# Altium integrated library SI2302.IntLib: 1 symbol
Pins are listed as number, name and electrical type; pins without a type are passive.

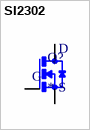
[diagram p0: symbol SI2302]

## SI2302
designator Q?
N-Channel 20 V 2.6A (Ta) 710mW (Ta) Surface Mount SOT-23-3 (TO-236); MP: SI2302; MF: Vishay Siliconix; Price: None; Availability: In Stock; Package: SOT-23-3 Vishay Siliconix; Value: *; SnapEDA_Link: https://www.snapeda.com/parts/SI2302/Vishay+Siliconix/view-part/?ref=snap; Purchase-URL: https://pricing.snapeda.com/search/part/SI2302/?ref=eda; Check_prices: https://www.snapeda.com/parts/SI2302/Vishay+Siliconix/view-part/?ref=eda
footprint SOT23
pins: 1 G, 2 S, 3 D